# Altium footprint library SWARMUS_LIB.PcbLib: 30 footprints (part 2 of 2)
Each footprint in its own frame and in the unit in brackets; x right, y up, seen from the top. Pads: shape width x height; smd on the part's side, far side on the other; paste and mask are expansions set on the pad; w line width, h text height; cw(c..) or ccw(c..) is an arc to the next point about the centre after c.
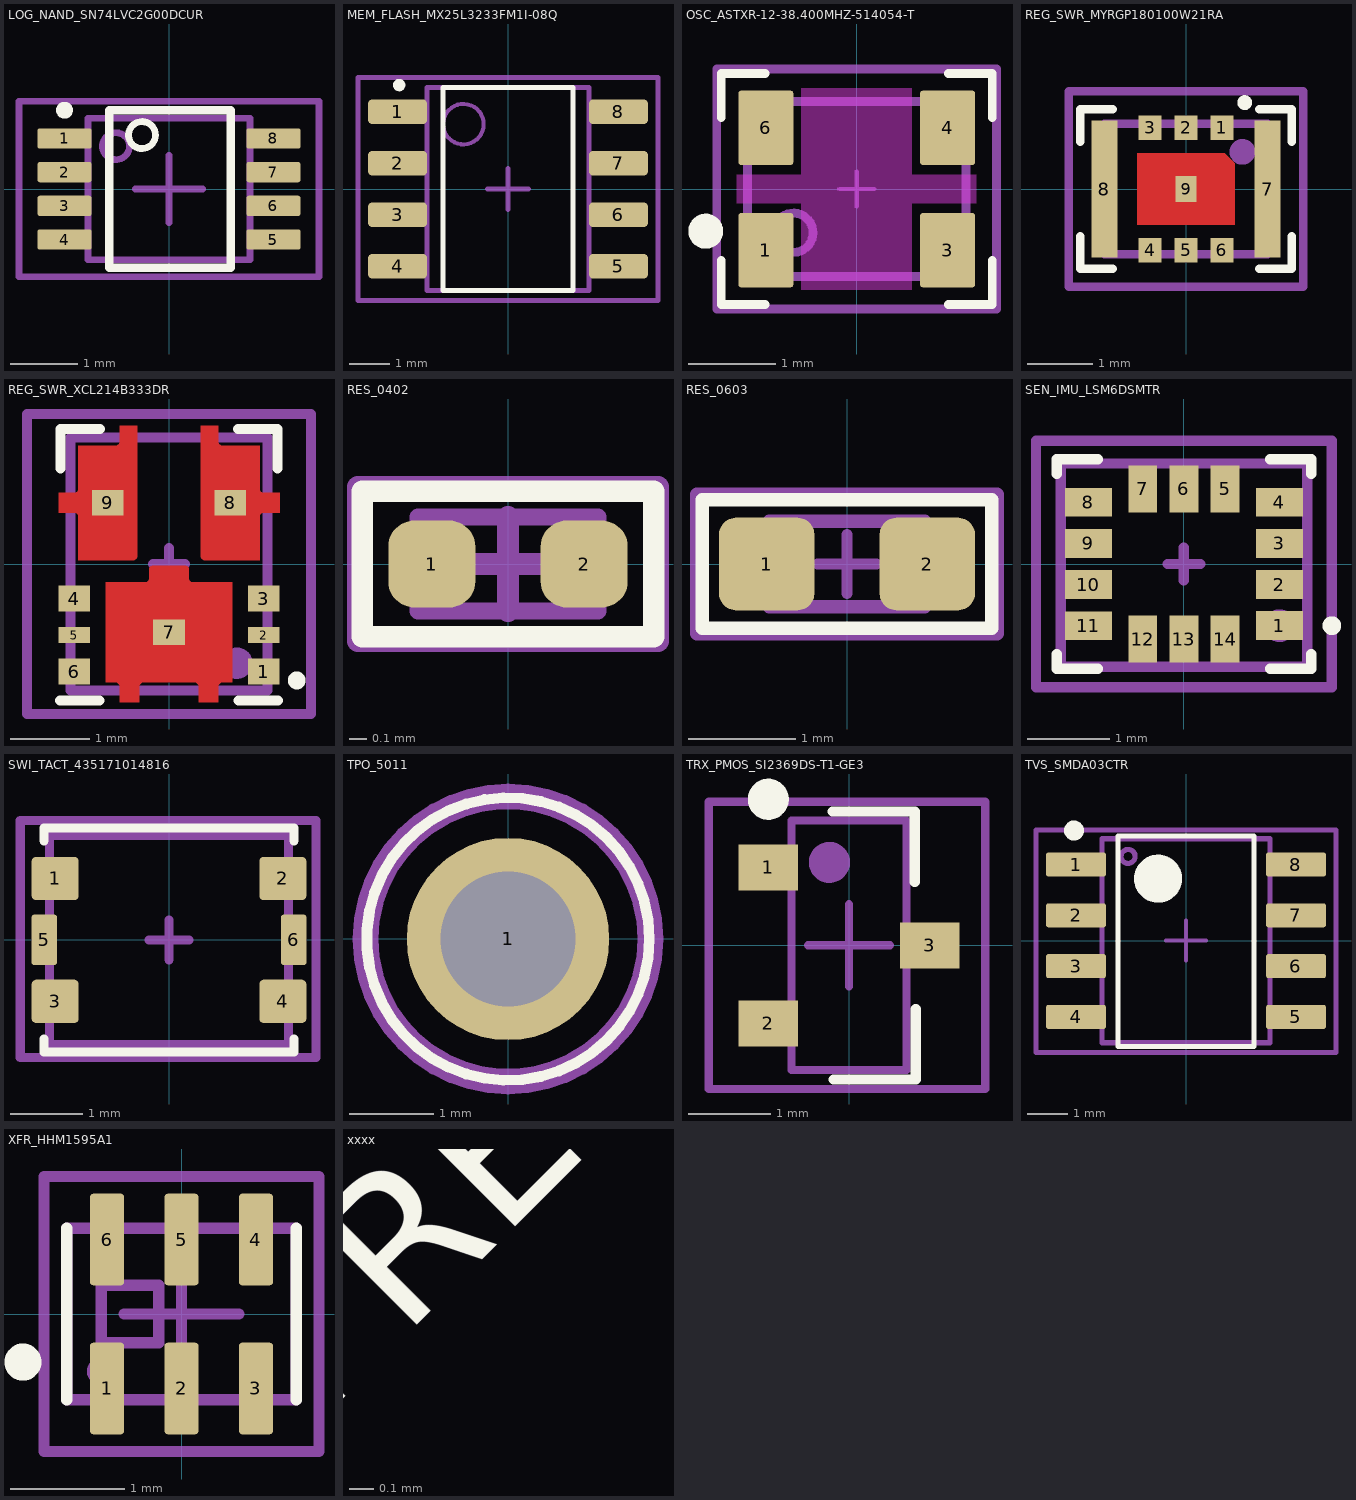
[diagram p1: the footprints below, top view; thin cyan lines are the x and y axes]

## LOG_NAND_SN74LVC2G00DCUR [mm] "SN74LVC2G00"
height 0.9
pads (8):
  rrect20% 0.8x0.3 smd paste-0.05 mask+0.05: 1(-1.55,0.75) 2(-1.55,0.25) 3(-1.55,-0.25) 4(-1.55,-0.75) 5(1.55,-0.75) 6(1.55,-0.25) 7(1.55,0.25) 8(1.55,0.75)
Top Overlay:
  circle w0.1: c-0.4,0.8 r0.2
  circle w0.127: c-1.549,1.168 r0.062
  lines w0.127: -0.889,-1.168 0.914,-1.168 0.914,1.168 -0.889,1.168 -0.889,-1.168
Top Assembly Drawing:
  circle w0.1: c-0.787,0.635 r0.2
  lines w0.1: -1.2,-1.05 1.2,-1.05 1.2,1.05 -1.2,1.05 -1.2,-1.05
Top Courtyard:
  lines w0.1: -0.5,0 0.5,0 ; 0,-0.5 0,0.5 ; -2.225,-1.3 2.225,-1.3 2.225,1.3 -2.225,1.3 -2.225,-1.3
3D body "COM_LEV_SN74LVC2G00.step": height 0.9, standoff 0, extent -1.549,-1.05 1.549,1.05

## MEM_FLASH_MX25L3233FM1I-08Q [mm] "SOIC, 8-Leads, Body 4,90x3,90mm, Pitch 1,27mm, IPC Medium Density"
height 1.75
pads (8):
  rrect30% 1.45x0.6 smd paste-0.025 mask+0.07: 1(-2.725,1.905) 2(-2.725,0.635) 3(-2.725,-0.635) 4(-2.725,-1.905) 5(2.725,-1.905) 6(2.725,-0.635) 7(2.725,0.635) 8(2.725,1.905)
Top Overlay:
  circle w0.152: c-2.683,2.563 r0.076
  lines w0.127: -1.6,-2.5 1.6,-2.5 1.6,2.5 -1.6,2.5 -1.6,-2.5
Top Assembly Drawing:
  circle w0.1: c-1.1,1.6 r0.5
  lines w0.127: -2,-2.5 2,-2.5 2,2.5 -2,2.5 -2,-2.5
Top Courtyard:
  lines w0.127: -0.5,0 0.5,0 ; 0,-0.5 0,0.5 ; -3.7,-2.75 3.7,-2.75 3.7,2.75 -3.7,2.75 -3.7,-2.75
3D body "SOIC127P600X175-8N.step": height 1.75, standoff 0, extent -3,-2.5 3,2.5

## OSC_ASTXR-12-38.400MHZ-514054-T [mm]
pads (4):
  rrect10% 0.63x0.85 smd paste-0.025 mask+0.07: 1(-1.04,-0.7) 3(1.04,-0.7) 4(1.04,0.7) 6(-1.04,0.7)
Top Layer keep-out:
  region: -0.635,1.15 -0.635,0.165 -1.37,0.165 -1.37,-0.165 -0.635,-0.165 -0.635,-1.15 0.63,-1.15 0.63,-0.165 1.37,-0.165 1.37,0.165 0.63,0.165 0.63,1.15
Top Overlay:
  circle w0.2: c-1.727,-0.483 r0.1
  lines w0.1: -1.549,-0.819 -1.549,-1.321 -1.049,-1.321 ; -1.549,0.819 -1.549,1.321 -1.049,1.321 ; 1.049,-1.321 1.549,-1.321 1.549,-0.819 ; 1.049,1.321 1.549,1.321 1.549,0.819
Top Assembly Drawing:
  circle w0.1: c-0.725,-0.5 r0.225
  lines w0.1: -1.25,-1 -1.25,1 1.25,1 1.25,-1 -1.25,-1
Top Courtyard:
  lines w0.05: -0.2,0 0.2,0 ; 0,-0.2 0,0.2
  lines w0.1: -1.6,-1.372 1.6,-1.372 1.6,1.372 -1.6,1.372 -1.6,-1.372
Bottom Courtyard:
  lines w0.05: -1.605,-1.375 -1.605,1.375 1.605,1.375 1.605,-1.375 -1.605,-1.375
3D body "ASTXR-12.STL.STEP": height 0.85, standoff 0, extent -1.25,-1 1.25,1

## REG_SWR_MYRGP180100W21RA [mm]
pads (9):
  rect 0.35x0.375 smd paste-1 mask+0.05: 1(0.55,0.937) 2(0,0.937) 3(-0.55,0.937) 4(-0.55,-0.937) 5(0,-0.937) 6(0.55,-0.937)
  rect 0.4x2.1 smd paste-1 mask+0.05: 7(1.25,0) 8(-1.25,0)
  rect 0.325x0.4 smd paste-1 mask-1: 9(0,0)
Top Layer:
  region: 0.596,0.55 -0.75,0.55 -0.75,-0.55 0.75,-0.55 0.75,0.396
Top Overlay:
  circle w0.127: c0.9,1.325 r0.05
  lines w0.127: -1.624,-0.723 -1.624,-1.223 -1.124,-1.223 ; -1.624,0.723 -1.624,1.223 -1.124,1.223 ; 1.124,-1.223 1.624,-1.223 1.624,-0.723 ; 1.124,1.223 1.624,1.223 1.624,0.723
Top Paste:
  region: 1.425,1.025 1.1,1.025 1.1,-1.025 1.425,-1.025
  region: -1.425,-1.025 -1.1,-1.025 -1.1,1.025 -1.425,1.025
  region: 0.4,0.8 0.7,0.8 0.7,1.1 0.4,1.1
  region: -0.15,0.8 0.15,0.8 0.15,1.1 -0.15,1.1
  region: -0.4,0.8 -0.7,0.8 -0.7,1.1 -0.4,1.1
  region: -0.4,-0.8 -0.7,-0.8 -0.7,-1.1 -0.4,-1.1
  region: 0.15,-0.8 -0.15,-0.8 -0.15,-1.1 0.15,-1.1
  region: 0.4,-0.8 0.7,-0.8 0.7,-1.1 0.4,-1.1
  region: 0.65,0.45 0.25,0.45 0.25,-0.45 0.65,-0.45
  region: -0.65,-0.45 -0.25,-0.45 -0.25,0.45 -0.65,0.45
Top Assembly Drawing:
  circle w0.254: c0.865,0.57 r0.071
  lines w0.127: -1.25,-1 -1.25,1 1.25,1 1.25,-1 -1.25,-1
Top Courtyard:
  lines w0.127: -0.2,0 0.2,0 ; 0,-0.2 0,0.2 ; -1.8,-1.5 1.8,-1.5 1.8,1.5 -1.8,1.5 -1.8,-1.5
3D body: height 1, standoff 0, extent -1.25,-1 1.25,1

## REG_SWR_XCL214B333DR [mm]
pads (9):
  rect 0.4x0.325 smd paste-0.05 mask+0.05: 1(1.2,-1.363) 3(1.2,-0.438) 4(-1.2,-0.438) 6(-1.2,-1.363)
  rect 0.4x0.2 smd paste-0.05 mask+0.05: 2(1.2,-0.9) 5(-1.2,-0.9)
  rect 0.4x0.325 smd paste-1 mask-1: 7(0,-0.865) 8(0.775,0.775) 9(-0.775,0.775)
Top Layer:
  region: 0.25,-0.07 0.25,-0.06 0.242,-0.042 0.228,-0.028 0.21,-0.02 0.2,-0.02 -0.2,-0.02 -0.21,-0.02 -0.228,-0.028 -0.242,-0.042 -0.25,-0.06 -0.25,-0.07 -0.25,-0.18 -0.251,-0.19 -0.258,-0.208 -0.272,-0.221 -0.29,-0.229 -0.3,-0.23 -0.8,-0.23 -0.8,-1.5 -0.675,-1.5 -0.665,-1.501 -0.647,-1.508 -0.633,-1.522 -0.626,-1.54 -0.625,-1.55 -0.625,-1.75 -0.375,-1.75 -0.375,-1.55 -0.374,-1.54 -0.366,-1.522 -0.353,-1.508 -0.335,-1.501 -0.325,-1.5 0.325,-1.5 0.335,-1.501 0.353,-1.508 0.367,-1.522 0.374,-1.54 0.375,-1.55 0.375,-1.75 0.625,-1.75 0.625,-1.55 0.626,-1.54 0.633,-1.522 0.647,-1.508 0.665,-1.501 0.675,-1.5 0.8,-1.5 0.8,-0.23 0.3,-0.23 0.29,-0.229 0.272,-0.221 0.259,-0.208 0.251,-0.19 0.25,-0.18
  region: -1.15,0.05 -0.45,0.05 -0.44,0.05 -0.421,0.057 -0.407,0.072 -0.4,0.09 -0.4,0.1 -0.4,1.75 -0.625,1.75 -0.625,1.55 -0.626,1.54 -0.633,1.522 -0.647,1.508 -0.665,1.501 -0.675,1.5 -1.15,1.5 -1.15,0.95 -1.151,0.94 -1.158,0.922 -1.172,0.908 -1.19,0.901 -1.2,0.9 -1.4,0.9 -1.4,0.65 -1.2,0.65 -1.19,0.649 -1.172,0.641 -1.158,0.628 -1.151,0.61 -1.15,0.6
  region: 1.15,0.05 0.45,0.05 0.44,0.05 0.421,0.057 0.407,0.072 0.4,0.09 0.4,0.1 0.4,1.75 0.625,1.75 0.625,1.55 0.626,1.54 0.633,1.522 0.647,1.508 0.665,1.501 0.675,1.5 1.15,1.5 1.15,0.95 1.151,0.94 1.158,0.922 1.172,0.908 1.19,0.901 1.2,0.9 1.4,0.9 1.4,0.65 1.2,0.65 1.19,0.649 1.172,0.641 1.158,0.628 1.151,0.61 1.15,0.6
Top Overlay:
  circle w0.127: c1.618,-1.475 r0.05
  lines w0.127: -1.378,-1.727 -0.878,-1.727 ; 0.872,1.712 1.372,1.712 1.372,1.212 ; 0.879,-1.727 1.379,-1.727 ; -1.372,1.712 -1.372,1.212 -1.372,1.712 ; -1.372,1.712 -0.872,1.712 -1.372,1.712
Top Paste:
  region: 1.35,-0.8 1.05,-0.8 1.05,-1 1.35,-1
  rectangle: -1.35,-1 -1.05,-0.8
  region: 0.474,0.675 0.464,0.675 0.446,0.683 0.432,0.697 0.424,0.715 0.424,0.725 0.424,1.7 0.6,1.7 0.6,1.45 0.601,1.441 0.608,1.423 0.622,1.409 0.639,1.401 0.649,1.4 0.65,1.4 1.05,1.4 1.05,0.925 1.051,0.916 1.058,0.898 1.072,0.884 1.089,0.876 1.099,0.875 1.1,0.875 1.35,0.875 1.35,0.675
  region: -0.475,0.675 -0.465,0.675 -0.446,0.683 -0.432,0.697 -0.425,0.715 -0.425,0.725 -0.425,1.7 -0.6,1.7 -0.6,1.45 -0.601,1.441 -0.608,1.423 -0.622,1.409 -0.64,1.401 -0.649,1.4 -0.65,1.4 -1.05,1.4 -1.05,0.925 -1.051,0.916 -1.058,0.898 -1.072,0.884 -1.09,0.876 -1.099,0.875 -1.1,0.875 -1.35,0.875 -1.35,0.675
  region: 0.7,-0.8 -0.7,-0.8 -0.7,-1.4 -0.65,-1.4 -0.641,-1.401 -0.622,-1.409 -0.609,-1.422 -0.601,-1.441 -0.6,-1.45 -0.6,-1.7 -0.4,-1.7 -0.4,-1.45 -0.399,-1.441 -0.392,-1.422 -0.378,-1.409 -0.36,-1.401 -0.35,-1.4 0.35,-1.4 0.359,-1.401 0.377,-1.409 0.391,-1.422 0.399,-1.441 0.4,-1.45 0.4,-1.7 0.6,-1.7 0.6,-1.45 0.601,-1.441 0.608,-1.422 0.622,-1.409 0.64,-1.401 0.65,-1.4 0.7,-1.4
Top Assembly Drawing:
  circle w0.254: c0.861,-1.257 r0.071
  lines w0.127: -1.25,-1.6 1.25,-1.6 1.25,1.6 -1.25,1.6 -1.25,-1.6
Top Courtyard:
  lines w0.127: -0.2,0 0.2,0 ; 0,-0.2 0,0.2 ; -1.8,-1.9 -1.8,1.9 1.8,1.9 1.8,-1.9 -1.8,-1.9
3D body: height 1, standoff 0, extent -1.25,-1.6 1.25,1.6

## RES_0402 [mil] "Resistor - 0402"
height 13.78
pads (2):
  rrect60% 20x20 smd paste+0 mask+1.97: 1(-17.5,0) 2(17.5,0)
Top Overlay:
  lines w5: -33.46,-16.73 -33.46,16.73 33.46,16.73 33.46,-16.73 -33.46,-16.73
Top Assembly Drawing:
  lines w3.94: -20.67,-10.83 -20.67,10.83 20.67,10.83 20.67,-10.83 -20.67,-10.83
Top Courtyard:
  lines w5: -10.83,0 10.83,0 ; 0,-10.83 0,10.83 ; -34.45,-17.72 34.45,-17.72 34.45,17.72 -34.45,17.72 -34.45,-17.72
3D body "User Library-User Library-RES0402-2.STEP": height 12.99, standoff -0.79, extent -19.68,-9.84 19.7,9.85

## RES_0603 [mil] "Resistor - 0603"
height 17.72
pads (2):
  rrect35% 35x34 smd paste+0 mask+1.97: 1(-29.5,0) 2(29.5,0)
Top Overlay:
  lines w5: -53.15,-23.62 53.15,-23.62 53.15,23.62 -53.15,23.62 -53.15,-23.62
Top Assembly Drawing:
  lines w5: -28.54,-15.75 28.54,-15.75 28.54,15.75 -28.54,15.75 -28.54,-15.75
Top Courtyard:
  lines w3.94: -10.83,0 10.83,0 ; 0,-10.83 0,10.83
  lines w5: -55.12,-25.59 55.12,-25.59 55.12,25.59 -55.12,25.59 -55.12,-25.59
3D body "RES0603.stp": height 16.93, standoff -0.79, extent -31.49,-15.74 31.51,15.76

## SEN_IMU_LSM6DSMTR [mm]
pads (14):
  rect 0.575x0.35 smd paste-1 mask+0.05: 1(1.162,-0.75) 2(1.162,-0.25) 3(1.162,0.25) 8(-1.163,0.75) 9(-1.163,0.25) 10(-1.163,-0.25)
  rect 0.575x0.35 smd mask+0.05: 4(1.162,0.75) 11(-1.163,-0.75)
  rect 0.35x0.575 smd paste-1 mask+0.05: 5(0.5,0.913) 6(0,0.913) 7(-0.5,0.913) 12(-0.5,-0.913) 13(0,-0.913) 14(0.5,-0.913)
Top Overlay:
  circle w0.127: c1.8,-0.75 r0.05
  lines w0.127: -1.55,-1.1 -1.55,-1.275 -1.05,-1.275 ; -1.55,1.1 -1.55,1.275 -1.05,1.275 ; 1.05,-1.275 1.55,-1.275 1.55,-1.1 ; 1.05,1.275 1.55,1.275 1.55,1.1
Top Assembly Drawing:
  circle w0.254: c1.162,-0.75 r0.071
  lines w0.127: -1.5,-1.25 1.5,-1.25 1.5,1.223 -1.5,1.223 -1.5,-1.25
Top Courtyard:
  lines w0.127: -0.2,0 0.2,0 ; 0,-0.2 0,0.2 ; -1.8,-1.5 1.8,-1.5 1.8,1.5 -1.8,1.5 -1.8,-1.5
3D body "LSM6DSMTR--3DModel-STEP-56544.STEP": height 0.86, standoff 0, extent -1.5,-1.25 1.5,1.25

## SWI_TACT_435171014816 [mm]
pads (6):
  rrect20% 0.65x0.6 smd paste+0 mask+0.05: 1(-1.575,0.85) 2(1.575,0.85) 3(-1.575,-0.85) 4(1.575,-0.85)
  rrect20% 0.35x0.7 smd paste+0 mask+0.05: 5(-1.725,0) 6(1.725,0)
Top Overlay:
  lines w0.127: -1.727,-1.372 -1.727,-1.549 1.727,-1.549 1.727,-1.372 ; -1.727,1.372 -1.727,1.549 1.727,1.549 1.727,1.372
Top Assembly Drawing:
  lines w0.127: -1.651,-1.45 -1.651,1.45 ; -1.651,-1.448 1.65,-1.448 ; -1.651,1.448 1.649,1.448 ; 1.651,-1.45 1.651,1.45
Top Courtyard:
  lines w0.127: -0.275,0 0.275,0 ; 0,-0.275 0,0.275 ; -2.057,-1.626 2.032,-1.626 2.032,1.651 -2.057,1.651 -2.057,-1.626
3D body "WS-TASV SMT Tact Switch v4.step": height 1.4, standoff 0, extent -1.65,-1.45 1.65,1.45

## TPO_5011 [mm]
pads (1):
  round 2.4 hole 1.6: 1(0,0)
Top Overlay:
  circle w0.127: c0,0 r1.676
Top Assembly Drawing:
  circle w0.127: c0,0 r1.6
Top Courtyard:
  circle w0.127: c0,0 r1.779
3D body "keystone-PN5011.STEP": height 8.13, standoff -3.17, extent -1.587,-1.587 1.588,1.588

## TRX_PMOS_SI2369DS-T1-GE3 [mm]
height 1.12
pads (3):
  rect 0.724x0.559 smd paste-0.025 mask+0.07: 1(-0.984,0.95) 2(-0.984,-0.95) 3(0.984,0)
Top Overlay:
  circle w0.25: c-0.984,1.78 r0.125
  lines w0.127: -0.2,1.63 0.8,1.63 0.8,0.773 ; -0.188,-1.635 0.812,-1.635 0.812,-0.778
Top Assembly Drawing:
  circle w0.25: c-0.24,1.011 r0.125
  lines w0.1: -0.7,-1.52 -0.7,1.52 0.7,1.52 0.7,-1.52 -0.7,-1.52
Top Courtyard:
  lines w0.1: -0.5,0 0.5,0 ; 0,-0.5 0,0.5 ; -1.709,-1.75 -1.709,1.75 1.658,1.75 1.658,-1.75 -1.709,-1.75
3D body "SOT95P237X112-3N.step": height 1.12, standoff 0, extent -1.32,-1.52 1.32,1.52

## TVS_SMDA03CTR [mm] "TVS - TVS DIODE 3.3V 7V - 8-SOIC"
height 1.8
pads (8):
  rrect20% 1.5x0.6 smd paste-0.025 mask+0.07: 1(-2.75,1.905) 2(-2.75,0.635) 3(-2.75,-0.635) 4(-2.75,-1.905) 5(2.75,-1.905) 6(2.75,-0.635) 7(2.75,0.635) 8(2.75,1.905)
Top Overlay:
  circle w0.25: c-2.8,2.755 r0.125
  circle w0.6: c-0.7,1.55 r0.3
  lines w0.127: -1.7,-2.642 1.7,-2.642 1.7,2.616 -1.7,2.616 -1.7,-2.642
Top Assembly Drawing:
  lines w0.127: -1.541,1.96 cw(c-1.448,2.108) -1.539,1.959 ; -2.1,-2.55 2.1,-2.55 2.1,2.55 -2.1,2.55 -2.1,-2.55
Top Courtyard:
  lines w0.1: -0.5,0 0.5,0 ; 0,-0.5 0,0.5
  lines w0.127: -3.75,-2.794 -3.75,2.769 3.75,2.769 3.75,-2.794 -3.75,-2.794
3D body "AMP_INSTR_AD623ARZ-RL.step": height 1.75, standoff 0, extent -3,-2.5 3,2.5

## XFR_HHM1595A1 [mm] "HHM1595A1"
height 0.95
pads (6):
  rrect20% 0.3x0.8 smd paste-0.025 mask+0.07: 1(-0.65,-0.65) 2(0,-0.65) 3(0.65,-0.65) 4(0.65,0.65) 5(0,0.65) 6(-0.65,0.65)
Top Overlay:
  circle w0.254: c-1.384,-0.419 r0.034
  lines w0.1: -1,-0.75 -1,0.75 ; 1,-0.75 1,0.75
Top Assembly Drawing:
  circle w0.15: c-0.7,-0.5 r0.05
  lines w0.1: -0.2,-0.25 -0.7,-0.25 -0.7,0.25 -0.2,0.25 -0.2,-0.225 ; -1,-0.75 -1,0.75 1,0.75 1,-0.75 -1,-0.75
Top Courtyard:
  lines w0.1: -0.5,0 0.5,0 ; 0,-0.5 0,0.5 ; -1.2,-1.2 1.2,-1.2 1.2,1.2 -1.2,1.2 -1.2,-1.2
3D body: height 0.95, standoff 0, extent -1,-0.75 1,0.75

## xxxx [mm]
Top Overlay:
  text "PRELIMINARY" at -2.464,-2.997 h1.25